# Altium integrated library Misc_Custom.IntLib: 2 symbols
Pins are listed as number, name and electrical type; pins without a type are passive.

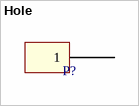
[diagram p0: symbol Hole]

## Hole
designator P?  (value not drawn)
footprint 24-gauge wire hole
footprint 4-40 Screw Mount
footprint 2-56 Screw Mount
pins: 1


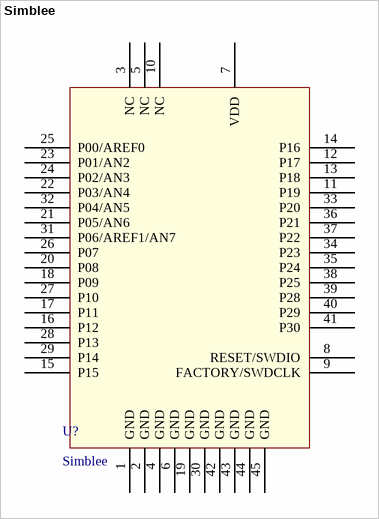
[diagram p1: symbol Simblee]

## Simblee
designator U?
Simblee BT/MCU; Datasheet: https://www.simblee.com/Simblee%20RFD77101%20Datasheet%20v1.0.pdf
footprint Simblee (Siblee BT/MCU)
pins: 1 GND, 2 GND, 3 NC, 4 GND, 5 NC, 6 GND, 7 VDD, 8 RESET/SWDIO, 9 FACTORY/SWDCLK, 10 NC, 11 P19, 12 P17, 13 P18, 14 P16, 15 P15, 16 P12, 17 P11, 18 P09, 19 GND, 20 P08, 21 P05/AN6, 22 P03/AN4, 23 P01/AN2, 24 P02/AN3, 25 P00/AREF0, 26 P07, 27 P10, 28 P13, 29 P14, 30 GND, 31 P06/AREF1/AN7, 32 P04/AN5, 33 P20, 34 P23, 35 P24, 36 P21, 37 P22, 38 P25, 39 P28, 40 P29, 41 P30, 42 GND, 43 GND, 44 GND, 45 GND